# EAGLE library part ADXL335 (library omc-archive)
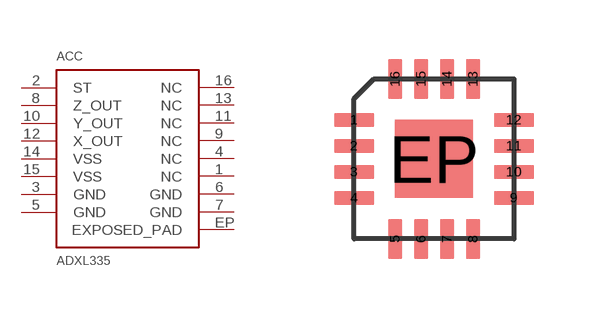
[diagram p5: symbol with the pads of LFCSP; footprint LFCSP]

Designator prefix ACC

## ADXL335  [LFCSP]
1  NC
2  ST
3  GND
4  NC
5  GND
6  GND
7  GND
8  Z_OUT
9  NC
10  Y_OUT
11  NC
12  X_OUT
13  NC
14  VSS
15  VSS
16  NC
EP  EXPOSED_PAD

## Footprint LFCSP (pad centres in mm)
smd 1 x 0.35: 1 -2,0.975; 2 -2,0.325; 3 -2,-0.325; 4 -2,-0.975; 9 2,-0.975; 10 2,-0.325; 11 2,0.325; 12 2,0.975
smd 0.35 x 1: 5 -0.975,-2; 6 -0.325,-2; 7 0.325,-2; 8 0.975,-2; 13 0.975,2; 14 0.325,2; 15 -0.325,2; 16 -0.975,2
smd 1.95 x 1.95: EP 0,0